# Altium schematic symbol library RS422 - Texas, SN65HVD30D.SchLib: 1 symbol
Pins are listed as number, name and electrical type; pins without a type are passive.

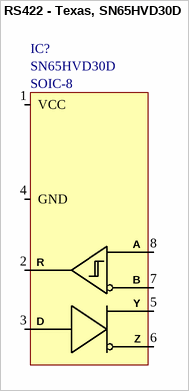
[diagram p0: symbol RS422 - Texas, SN65HVD30D]

## RS422 - Texas, SN65HVD30D
designator IC?  Manufacturer Part Number: SN65HVD30D  Package: SOIC-8  (hidden comment: *)
IC, Interface, RS422, SOIC-8; Manufacturer: Texas; ComponentLink1Description: Datasheet; ComponentLink1URL: E:\Altium\Datasheets\IC - Interface\RS422 - Texas, SN65HVD3x.pdf; ComponentLink2Description: Supplier Link; ComponentLink2URL: https://www.digikey.com/en/products/detail/texas-instruments/SN65HVD30D/1574539; Supplier: Digikey; Supplier Part Number: 296-26346-5-ND; Operating Temperature, Min: -55℃; Operating Temperature, Max: +85℃; Quantity, Min: 1; Quantity, Max: 1000; Price, Min: 5.44; Supplier Currency: $; Price, Max: 3.1008; Supplier Link: https://www.digikey.com/en/products/detail/texas-instruments/SN65HVD30D/1574539; Component Type: Interface; Component Category: IC
footprint SOIC-8, NB
pins: 1 VCC, 2 R, 3 D, 4 GND, 5 Y, 6 Z, 7 B, 8 A